# Altium footprint library PcbLib1.PcbLib: 28 footprints (part 2 of 2)
Each footprint in its own frame and in the unit in brackets; x right, y up, seen from the top. Pads: shape width x height; smd on the part's side, far side on the other; paste and mask are expansions set on the pad; w line width, h text height; cw(c..) or ccw(c..) is an arc to the next point about the centre after c.
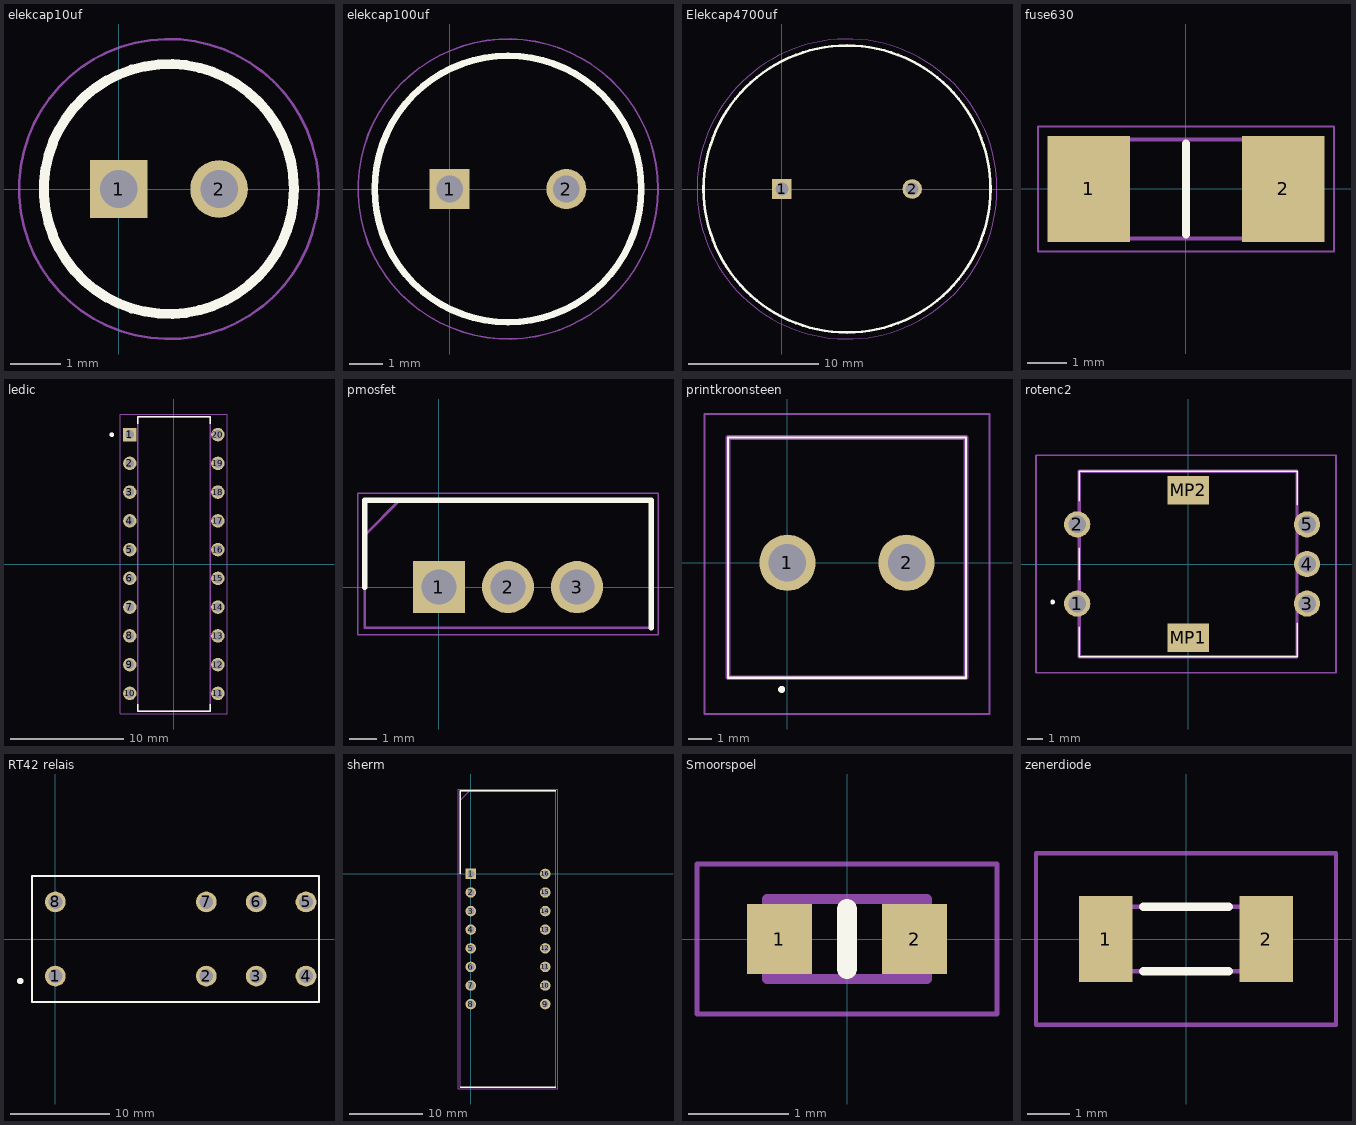
[diagram p1: the footprints below, top view; thin cyan lines are the x and y axes]

## elekcap10uf [mm]
pads (2):
  rect 1.15x1.15 hole 0.75: 1(0,0)
  round 1.15 hole 0.75: 2(2,0)
Top Overlay:
  circle w0.2: c1,0 r2.5
Mechanical 13:
  circle w0.1: c1,0 r2.5
Mechanical 15:
  circle w0.05: c1,0 r3
3D body "EEU-FR1H100.stp": height 12.5, standoff -10, extent -1.75,-2.75 3.75,2.75

## elekcap100uf [mm]
pads (2):
  rect 1.2x1.2 hole 0.8: 1(0,0)
  round 1.2 hole 0.8: 2(3.5,0)
Top Overlay:
  circle w0.2: c1.75,0 r4
Mechanical 13:
  circle w0.1: c1.75,0 r4
Mechanical 15:
  circle w0.05: c1.75,0 r4.5
3D body "ESH107M050AG3KA.stp": height 12.5, standoff -10, extent -2.5,-4.25 6,4.25

## Elekcap4700uf [mm]
pads (2):
  rect 1.5x1.5 hole 1: 1(0,0)
  round 1.5 hole 1: 2(10,0)
Top Overlay:
  circle w0.2: c5,0 r11
Mechanical 13:
  circle w0.1: c5,0 r11
Mechanical 15:
  circle w0.05: c5,0 r11.5
3D body "ESK478M050AQ3AA.stp": height 37, standoff -10, extent -6.25,-11.25 16.25,11.25

## fuse630 [mm]
pads (2):
  rect 2.07x2.66 smd: 1(-2.45,0) 2(2.45,0)
Top Overlay:
  lines w0.2: 0,-1.145 0,1.145
Mechanical 13:
  lines w0.1: -3.05,-1.245 -3.05,1.245 3.05,1.245 3.05,-1.245 -3.05,-1.245
Mechanical 15:
  lines w0.05: -3.735,-1.58 -3.735,1.58 3.735,1.58 3.735,-1.58 -3.735,-1.58
3D body "SF-2410SP063W-2.stp": height 2.16, standoff 0, extent -3.05,-1.245 3.05,1.245

## ledic [mm]
pads (20):
  rect 1.19x1.19 hole 0.79: 1(-3.89,11.43)
  round 1.19 hole 0.79: 2(-3.89,8.89) 3(-3.89,6.35) 4(-3.89,3.81) 5(-3.89,1.27) 6(-3.89,-1.27) 7(-3.89,-3.81) 8(-3.89,-6.35) 9(-3.89,-8.89) 10(-3.89,-11.43) 11(3.89,-11.43) 12(3.89,-8.89) 13(3.89,-6.35) 14(3.89,-3.81) 15(3.89,-1.27) 16(3.89,1.27) 17(3.89,3.81) 18(3.89,6.35) 19(3.89,8.89) 20(3.89,11.43)
Top Overlay:
  circle w0.2: c-5.485,11.43 r0.1
  lines w0.127: -3.2,-12.375 -3.2,-13 3.2,-13 3.2,-12.375 ; -3.2,12.375 -3.2,13 3.2,13 3.2,12.375
Mechanical 13:
  circle w0.2: c-5.485,11.43 r0.1
  lines w0.127: -3.2,-13 3.2,-13 3.2,13 -3.2,13 -3.2,-13
Mechanical 15:
  lines w0.05: -4.735,-13.25 -4.735,13.25 4.735,13.25 4.735,-13.25 -4.735,-13.25
3D body "step_temp.STEP": height 4.31, standoff -3.6, extent -4.03,-13 4.03,13

## pmosfet [mm]
pads (3):
  rect 1.92x1.92 hole 1.28: 1(0,0)
  round 1.92 hole 1.28: 2(2.54,0) 3(5.08,0)
Top Overlay:
  lines w0.2: -2.73,0 -2.73,3.195 7.81,3.195 7.81,-1.495
Mechanical 13:
  lines w0.1: -2.73,1.925 -1.46,3.195 ; -2.73,-1.495 7.81,-1.495 7.81,3.195 -2.73,3.195 -2.73,-1.495
Mechanical 15:
  lines w0.05: -2.98,-1.745 8.06,-1.745 8.06,3.445 -2.98,3.445 -2.98,-1.745
3D body "IRF9Z34NPBF.stp": height 18.84, standoff -17.51, extent -2.668,-1.495 7.748,3.195

## printkroonsteen [mm]
pads (2):
  round 2.4 hole 1.6: 1(0,0) 2(5.08,0)
Top Overlay:
  lines w0.1: -2.54,-4.9 -2.54,5.35 7.62,5.35 7.62,-4.9 -2.54,-4.9
  lines w0.2: -0.3,-5.4 ccw(c-0.25,-5.4) -0.2,-5.4 ; -0.3,-5.4 cw(c-0.25,-5.4) -0.2,-5.4 ; -0.3,-5.4 ccw(c-0.25,-5.4) -0.2,-5.4
Mechanical 13:
  lines w0.2: -2.54,-4.9 -2.54,5.35 7.62,5.35 7.62,-4.9 -2.54,-4.9
Mechanical 15:
  lines w0.1: -3.54,-6.45 -3.54,6.35 8.62,6.35 8.62,-6.45 -3.54,-6.45
3D body "TB007-508-02BE.stp": height 14.1, standoff -5, extent -2.54,-4.9 7.62,5.35

## rotenc2 [mm]
pads (7):
  round 1.65 hole 1.1: 1(-7,-2.5) 2(-7,2.5) 3(7.5,-2.5) 4(7.5,0) 5(7.5,2.5)
  rect 2.6x1.8 smd: MP1(0,-4.65) MP2(0,4.65)
Top Overlay:
  lines w0.1: -6.875,-5.85 -6.875,-4 -6.875,-5.85 ; -6.875,-5.85 6.875,-5.85 ; -6.875,-5.85 6.875,-5.85 ; -6.875,5.85 6.875,5.85 ; -6.875,5.85 6.875,5.85 ; -6.875,5.85 -6.875,4 -6.875,5.85 ; 6.875,-5.85 6.875,-3.75 6.875,-5.85 ; 6.875,5.85 6.875,3.75 6.875,5.85 ; -6.875,-1 -6.875,1 -6.875,-1
  lines w0.2: -8.6,-2.4 ccw(c-8.55,-2.4) -8.5,-2.4 ; -8.6,-2.4 cw(c-8.55,-2.4) -8.5,-2.4 ; -8.6,-2.4 ccw(c-8.55,-2.4) -8.5,-2.4
Mechanical 13:
  lines w0.2: -6.875,-5.85 -6.875,5.85 6.875,5.85 6.875,-5.85 -6.875,-5.85
Mechanical 15:
  lines w0.1: -9.6,-6.85 -9.6,6.85 9.325,6.85 9.325,-6.85 -9.6,-6.85
3D body "482016514001.stp": height 27, standoff -5, extent -7.446,-5.85 7.95,5.85

## RT42 relais [mm]
pads (8):
  round 2.1 hole 1.4: 1(0,-3.75) 2(15.26,-3.75) 3(20.3,-3.75) 4(25.34,-3.75) 5(25.34,3.75) 6(20.3,3.75) 7(15.26,3.75) 8(0,3.75)
Top Overlay:
  circle w0.4: c-3.547,-4.246 r0.126
  lines w0.2: -2.35,-6.35 26.65,-6.35 26.65,6.35 -2.35,6.35 -2.35,-6.35
Mechanical 13:
  lines w0.2: -2.35,-6.35 26.65,-6.35 26.65,6.35 -2.35,6.35 -2.35,-6.35
3D body "RT424005.stp": height 15.86, standoff -2.94, extent -2.21,-6.35 26.79,6.35

## sherm [mm]
pads (16):
  rect 1.425x1.425 hole 0.95: 1(0,0)
  round 1.425 hole 0.95: 2(0,-2.54) 3(0,-5.08) 4(0,-7.62) 5(0,-10.16) 6(0,-12.7) 7(0,-15.24) 8(0,-17.78) 9(10.16,-17.78) 10(10.16,-15.24) 11(10.16,-12.7) 12(10.16,-10.16) 13(10.16,-7.62) 14(10.16,-5.08) 15(10.16,-2.54) 16(10.16,0)
Top Overlay:
  lines w0.2: -1.445,-29.115 11.605,-29.115 ; -1.445,0 -1.445,11.335 11.605,11.335
Mechanical 13:
  lines w0.1: -1.445,10.065 -0.175,11.335 ; -1.445,-29.115 -1.445,11.335 11.605,11.335 11.605,-29.115 -1.445,-29.115
Mechanical 15:
  lines w0.05: -1.695,-29.365 -1.695,11.585 11.855,11.585 11.855,-29.365 -1.695,-29.365

## Smoorspoel [mm]
pads (2):
  rect 0.65x0.7 smd: 1(-0.675,0) 2(0.675,0)
Top Overlay:
  lines w0.2: 0,-0.3 0,0.3
Mechanical 13:
  lines w0.1: -0.8,-0.4 0.8,-0.4 0.8,0.4 -0.8,0.4 -0.8,-0.4
Mechanical 15:
  lines w0.05: -1.5,-0.75 1.5,-0.75 1.5,0.75 -1.5,0.75 -1.5,-0.75
3D body "LQM18FN1R0M00D.stp": height 1, standoff 0, extent -0.935,-0.4 0.935,0.4

## zenerdiode [mm]
pads (2):
  rect 1.25x2 smd: 1(-1.875,0) 2(1.875,0)
Top Overlay:
  lines w0.2: -1,-0.75 1,-0.75 ; -1,0.75 1,0.75
Mechanical 13:
  lines w0.1: -1.75,-0.75 -1.75,0.75 1.75,0.75 1.75,-0.75 -1.75,-0.75
Mechanical 15:
  lines w0.1: -3.5,-2 -3.5,2 3.5,2 3.5,-2 -3.5,-2